# EAGLE library part IV-6_T (library VFD)
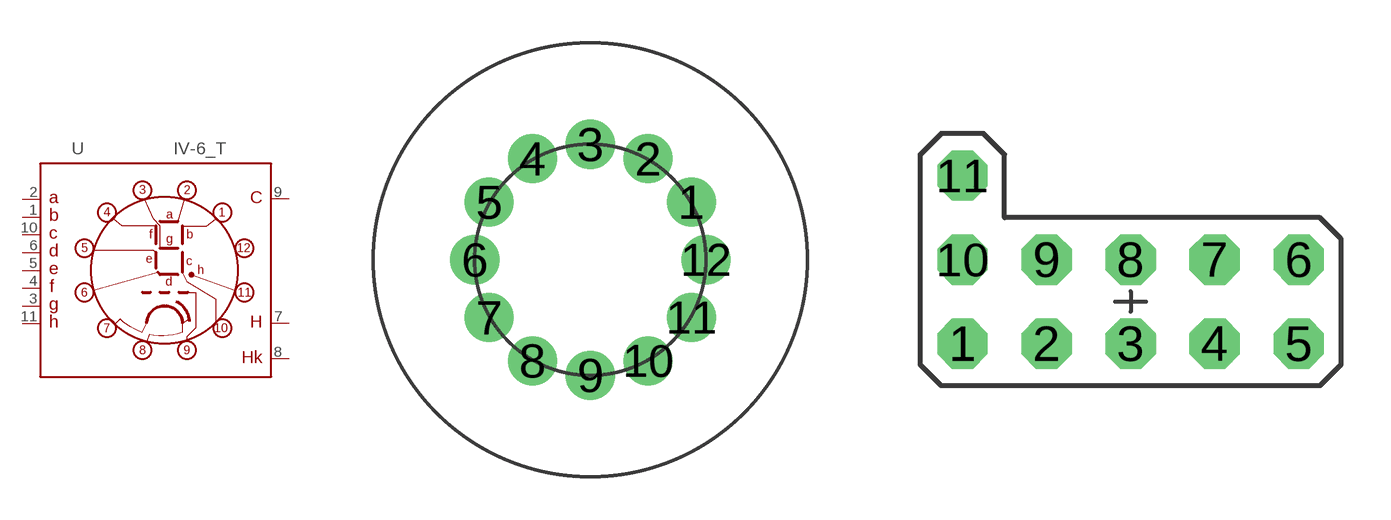
[diagram p1: symbol with the pads of IV-6; footprints IV-6, CON_VFD]

Designator prefix -

## IV-6_T_R  [IV-6]
1  B
2  A
3  G
4  F
5  E
6  D
7  H1
8  H2K
9  S
10  C
11  H

## IV-6_T_P  [CON_VFD]
Pads as for IV-6

## IV-6_T_VIXC  [IV-6_VIXC]
Pads as for IV-6

## IV-6_T_VIXL  [IV-6_VIXL]
Pads as for IV-6

## IV-6_T_VIXR  [IV-6_VIXR]
Pads as for IV-6

## Footprint IV-6 (pad centres in mm)
drill 0.5 pad 1.7: 1 0.5,-3; 2 -1,-1.5; 3 -3,-1; 4 -5,-1.5; 5 -6.5,-3; 6 -7,-5; 7 -6.5,-7; 8 -5,-8.5; 9 -3,-9; 10 -1,-8.5; 11 0.5,-7; 12 1,-5

## Footprint CON_VFD (pad centres in mm)
PIN HEADER
drill 1.016 octagon: 1 -5.08,-1.27; 2 -2.54,-1.27; 3 0,-1.27; 4 2.54,-1.27; 5 5.08,-1.27; 6 5.08,1.27; 7 2.54,1.27; 8 0,1.27; 9 -2.54,1.27; 10 -5.08,1.27; 11 -5.08,3.81

## Footprint IV-6_VIXC (pad centres in mm)
drill 0.8 pad 1.93: 1 -5.08,19.05; 2 -2.54,19.05; 3 0,19.05; 4 2.54,19.05; 5 5.08,19.05; 6 5.08,21.59; 7 2.54,21.59; 8 0,21.59; 9 -2.54,21.59; 10 -5.08,21.59; 11 -5.08,24.13

## Footprint IV-6_VIXL (pad centres in mm)
drill 0.8 pad 1.93: 1 -5.08,19.05; 2 -2.54,19.05; 3 0,19.05; 4 2.54,19.05; 5 5.08,19.05; 6 5.08,21.59; 7 2.54,21.59; 8 0,21.59; 9 -2.54,21.59; 10 -5.08,21.59; 11 -5.08,24.13

## Footprint IV-6_VIXR (pad centres in mm)
drill 0.8 pad 1.93: 1 -5.08,19.05; 2 -2.54,19.05; 3 0,19.05; 4 2.54,19.05; 5 5.08,19.05; 6 5.08,21.59; 7 2.54,21.59; 8 0,21.59; 9 -2.54,21.59; 10 -5.08,21.59; 11 -5.08,24.13